# EAGLE library part PIC18F2550 (library NBitWonder)
8-bit 8MIPS Microcontroller w/ Integrated USB (5V, 32MHz)
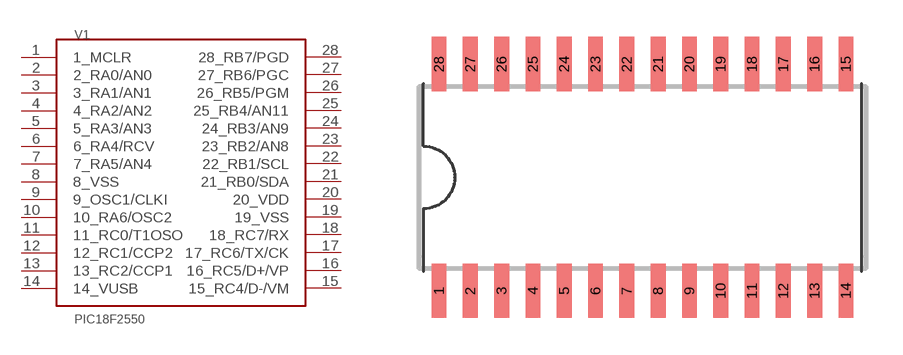
[diagram p0: symbol with the pads of SOIC_28; footprint SOIC_28]

Designator prefix V1

## PIC18F2550  [SOIC_28]
1  1_MCLR
2  2_RA0/AN0
3  3_RA1/AN1
4  4_RA2/AN2
5  5_RA3/AN3
6  6_RA4/RCV
7  7_RA5/AN4
8  8_VSS
9  9_OSC1/CLKI
10  10_RA6/OSC2
11  11_RC0/T1OSO
12  12_RC1/CCP2
13  13_RC2/CCP1
14  14_VUSB
15  15_RC4/D-/VM
16  16_RC5/D+/VP
17  17_RC6/TX/CK
18  18_RC7/RX
19  19_VSS
20  20_VDD
21  21_RB0/SDA
22  22_RB1/SCL
23  23_RB2/AN8
24  24_RB3/AN9
25  25_RB4/AN11
26  26_RB5/PGM
27  27_RB6/PGC
28  28_RB7/PGD

## Footprint SOIC_28 (pad centres in mm)
SMALL OUTLINE INTEGRATED CIRCUIT wide body 7.5 mm/JEDEC MO-119AB Source: http://www.atmel.com/dyn/resources/prod_documents/doc4126.pdf
smd 0.6 x 2.2: 1 -8.255,-4.6; 2 -6.985,-4.6; 3 -5.715,-4.6; 4 -4.445,-4.6; 5 -3.175,-4.6; 6 -1.905,-4.6; 7 -0.635,-4.6; 8 0.635,-4.6; 9 1.905,-4.6; 10 3.175,-4.6; 11 4.445,-4.6; 12 5.715,-4.6; 13 6.985,-4.6; 14 8.255,-4.6; 15 8.255,4.6; 16 6.985,4.6; 17 5.715,4.6; 18 4.445,4.6; 19 3.175,4.6; 20 1.905,4.6; 21 0.635,4.6; 22 -0.635,4.6; 23 -1.905,4.6; 24 -3.175,4.6; 25 -4.445,4.6; 26 -5.715,4.6; 27 -6.985,4.6; 28 -8.255,4.6